# Altium schematic symbol library Vref_MAX6070_1.Schlib: 1 symbol
Pins are listed as number, name and electrical type; pins without a type are passive.

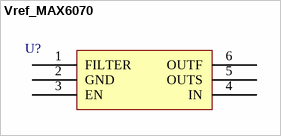
[diagram p0: symbol Vref_MAX6070]

## Vref_MAX6070
designator U?, comment MAX6070 - 2.5V  (value not drawn)
footprint SOT95P280X145-6N (SOT23, 6-Leads, Body 2.90x2.80mm, Pitch 0.95mm, IPC Medium Density)
pins: 1 FILTER, 2 GND, 3 EN, 4 IN, 5 OUTS, 6 OUTF